# EAGLE library part 750315072 (library wurth_electronics_midcom_inc_v2-1)
Package Style: EP5 Mounting: SMD Pins: 6 pins Bobbin: 070-6279 Best pinouts for production vary per application. Please contact Wurth Electronics Midcom, Inc. for assistance with your custom design. Website: Wurth Electronics Midcom <http://www.we-online.com/midcom> Contact us Wurth Electronics Midcom, Inc. 121 Airport Dr. Watertown, SD 57201 Phone: (605) 886-4385 Fax: (605) 886-4486 E-Mail: midcom@we-online.com
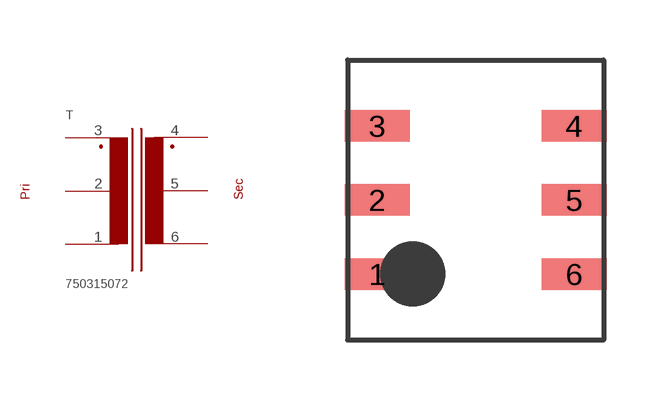
[diagram p24: symbol with the pads of EP5_SMD_H_6PIN_(6279); footprint EP5_SMD_H_6PIN_(6279)]

Designator prefix T

## 750315072  [EP5_SMD_H_6PIN_(6279)]
1  1  pas
2  2  pas
3  3  pas
4  4  pas
5  5  pas
6  6  pas

## Footprint EP5_SMD_H_6PIN_(6279) (pad centres in mm)
Package Style: EP5 Mounting: SMD Pins: 6 Bobbin: 070-6279
smd 1.626 x 0.787: 1 -2.464,-1.854; 2 -2.464,0; 3 -2.464,1.854; 4 2.464,1.854; 5 2.464,0; 6 2.464,-1.854